# Altium schematic symbol library cap.SchLib: 14 symbols
Pins are listed as number, name and electrical type; pins without a type are passive.

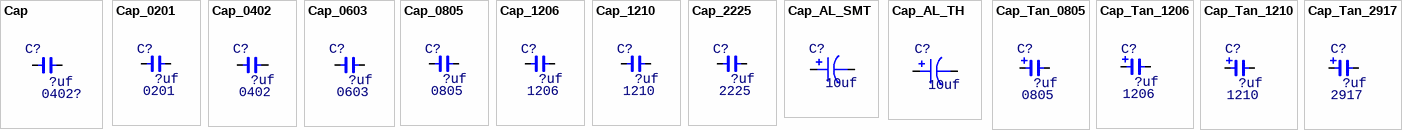
[diagram p0: symbols Cap to Cap_Tan_2917]

## Cap
designator C?, comment 0402?  value ?uf
footprint CAP_0201
footprint CAP_0402
footprint CAP_0603
footprint CAP_0805
footprint CAP_1008
footprint CAP_1206
footprint CAP_1210
footprint CAP_1812
footprint CAP_2220
footprint Cap_2225
footprint CAP_2512
pins: 1, 2

## Cap_0201
designator C?, comment value ?uf  Type: 0201  (hidden comment: C0201)
Capacitor; Specification: X7R 50V; Manufacturer: *
footprint CAP 0201/0603 (Chip Capacitor, 2-Leads, Body 0.60x0.30mm, IPC Medium Density)
footprint CAP 0201/0603 RF (Chip Capacitor, 2-Leads, Body 0.60x0.30mm, IPC High Density)
footprint CAP_0201
pins: 1, 2

## Cap_0402
designator C?, comment value ?uf  Type: 0402  (hidden comment: C0402)
Capacitor; Specification: X7R 50V; Manufacturer: *
footprint CAP 0402/1005 (Chip Capacitor, 2-Leads, Body 1.02x0.51mm, IPC Medium Density)
footprint CAP 0402/1005 RF (Chip Capacitor, 2-Leads, Body 1.02x0.51mm, IPC High Density)
footprint CAP_0402
pins: 1, 2

## Cap_0603
designator C?, comment value ?uf  Type: 0603  (hidden comment: C0603)
Capacitor; Specification: X7R 50V; Manufacturer: *
footprint CAP 0603/1608 (Chip Capacitor, 2-Leads, Body 1.60x0.80mm, IPC Medium Density)
footprint CAP 0603/1608 (Chip Capacitor, 2-Leads, Body 1.60x0.80mm, IPC Medium Density)
footprint CAP_0603
pins: 1, 2

## Cap_0805
designator C?, comment value ?uf  Type: 0805  (hidden comment: C0805)
Capacitor; Specification: X7R 50V; Manufacturer: *
footprint CAP 0805/2012 (Chip Capacitor, 2-Leads, Body 2.00x1.20mm, IPC Medium Density)
footprint CAP 0805/2012 RF (Chip Capacitor, 2-Leads, Body 2.00x1.20mm, IPC High Density)
footprint CAP_0805
pins: 1, 2

## Cap_1206
designator C?, comment value ?uf  Type: 1206  (hidden comment: C1206)
Capacitor; Specification: X7R 50V; Manufacturer: *
footprint CAP_1206
pins: 1, 2

## Cap_1210
designator C?, comment value ?uf  Type: 1210  (hidden comment: C0805)
Capacitor; Specification: X7R 50V; Manufacturer: *
footprint CAP_1210
pins: 1, 2

## Cap_2225
designator C?, comment value ?uf  Type: 2225  (hidden comment: C2225)
Capacitor; Specification: X7R 50V; Manufacturer: *
footprint CAP_2225
pins: 1, 2

## Cap_AL_SMT
designator C?, comment 10uf
Polarised Capacitor; Value: 10uf
footprint CAP ALUM 6.6MM (Aluminum Electrolytic Capacitor, Body 6.60x6.60x7.70mm, IPC Low Density)
footprint CAP ALUM 8.3MM (Aluminum Electrolytic Capacitor, Body 8.30x8.30x10.50mm, IPC Low Density)
footprint CAP ALUM 10.3MM (Aluminum Electrolytic Capacitor, Body 10.30x10.30x10.50mm, IPC Low Density)
pins: 1, 2

## Cap_AL_TH
designator C?, comment 10uf
Polarised Capacitor; Value: 10uf
footprint CAP AL TH D10 L5 H12.5 (10MM Diameter, 5MM Lead Spacing Aluminium Capacitor)
footprint CAP AL TH D10 L5 H14.5 (10MM Diameter, 5MM Lead Spacing Aluminium Capacitor)
footprint CAP AL TH D10 L5 H17.5 (10MM Diameter, 5MM Lead Spacing Aluminium Capacitor)
footprint CAP AL TH D10 L5 H22 (10MM Diameter, 5MM Lead Spacing Aluminium Capacitor)
footprint CAP AL TH D10 L5 H30 (10MM Diameter, 5MM Lead Spacing Aluminium Capacitor)
footprint CAP AL TH D12.5 L5 H14 (12.5MM Diameter, 5MM Lead Spacing Aluminium Capacitor)
footprint CAP AL TH D12.5 L5 H15 (12.5MM Diameter, 5MM Lead Spacing Aluminium Capacitor)
footprint CAP AL TH D12.5 L5 H16.5 (12.5MM Diameter, 5MM Lead Spacing Aluminium Capacitor)
footprint CAP AL TH D12.5 L5 H17.5 (12.5MM Diameter, 5MM Lead Spacing Aluminium Capacitor)
footprint CAP AL TH D12.5 L5 H20 (12.5MM Diameter, 5MM Lead Spacing Aluminium Capacitor)
footprint CAP AL TH D12.5 L5 H21.5 (12.5MM Diameter, 5MM Lead Spacing Aluminium Capacitor)
footprint CAP AL TH D12.5 L5 H22 (12.5MM Diameter, 5MM Lead Spacing Aluminium Capacitor)
footprint CAP AL TH D12.5 L5 H25 (12.5MM Diameter, 5MM Lead Spacing Aluminium Capacitor)
footprint CAP AL TH D12.5 L5 H26.5 (12.5MM Diameter, 5MM Lead Spacing Aluminium Capacitor)
footprint CAP AL TH D12.5 L5 H27 (12.5MM Diameter, 5MM Lead Spacing Aluminium Capacitor)
footprint CAP AL TH D12.5 L5 H35.5 (12.5MM Diameter, 5MM Lead Spacing Aluminium Capacitor)
footprint CAP AL TH D16 L7.5 H16.5 (16MM Diameter, 7.5MM Lead Spacing Aluminium Capacitor)
footprint CAP AL TH D16 L7.5 H20 (16MM Diameter, 7.5MM Lead Spacing Aluminium Capacitor)
footprint CAP AL TH D16 L7.5 H22 (16MM Diameter, 7.5MM Lead Spacing Aluminium Capacitor)
footprint CAP AL TH D12.5 L5 H25 (12.5MM Diameter, 5MM Lead Spacing Aluminium Capacitor)
footprint CAP AL TH D16 L7.5 H26.5 (16MM Diameter, 7.5MM Lead Spacing Aluminium Capacitor)
footprint CAP AL TH D16 L7.5 H27 (16MM Diameter, 7.5MM Lead Spacing Aluminium Capacitor)
footprint CAP AL TH D16 L7.5 H33.5 (16MM Diameter, 7.5MM Lead Spacing Aluminium Capacitor)
footprint CAP AL TH D16 L7.5 H37 (16MM Diameter, 7.5MM Lead Spacing Aluminium Capacitor)
footprint CAP AL TH D22 L10 H14.5 (16MM Diameter, 7.5MM Lead Spacing Aluminium Capacitor)
footprint CAP AL TH D22 L10 H33 (16MM Diameter, 7.5MM Lead Spacing Aluminium Capacitor)
footprint CAP AL TH D22 L10 H43 (16MM Diameter, 7.5MM Lead Spacing Aluminium Capacitor)
footprint CAP AL TH D22 L10 H53 (16MM Diameter, 7.5MM Lead Spacing Aluminium Capacitor)
footprint CAP AL TH D25 L12.5 H14.5 (16MM Diameter, 7.5MM Lead Spacing Aluminium Capacitor)
footprint CAP AL TH D25 L12.5 H32 (16MM Diameter, 7.5MM Lead Spacing Aluminium Capacitor)
footprint CAP AL TH D25 L12.5 H42 (16MM Diameter, 7.5MM Lead Spacing Aluminium Capacitor)
footprint CAP AL TH D25 L12.5 H52 (16MM Diameter, 7.5MM Lead Spacing Aluminium Capacitor)
pins: 1, 2

## Cap_Tan_0805
designator C?, comment value ?uf  Type: 0805  (hidden comment: C0805)
Capacitor Tantalum; Specification: X5R 10V; Manufacturer: *
footprint CAP TAN P0805/2012
pins: 1, 2
1 alternate drawing of the same symbol

## Cap_Tan_1206
designator C?, comment value ?uf  Type: 1206  (hidden comment: C1206)
Capacitor Tantalum; Specification: X5R 10V; Manufacturer: *
footprint CAP TAN A1206/3216
pins: 1, 2
1 alternate drawing of the same symbol

## Cap_Tan_1210
designator C?, comment value ?uf  Type: 1210  (hidden comment: C1210)
Capacitor Tantalum; Specification: X5R 10V; Manufacturer: *
footprint CAP TAN B1210/3528
pins: 1, 2
1 alternate drawing of the same symbol

## Cap_Tan_2917
designator C?, comment value ?uf  Type: 2917  (hidden comment: C2917)
Capacitor Tantalum; Specification: X5R 10V; Manufacturer: *
footprint CAP TAN D2917/7343
pins: 1, 2
1 alternate drawing of the same symbol